# Altium integrated library Lib_componentes_Stellaris.IntLib: 27 symbols (part 2 of 2)
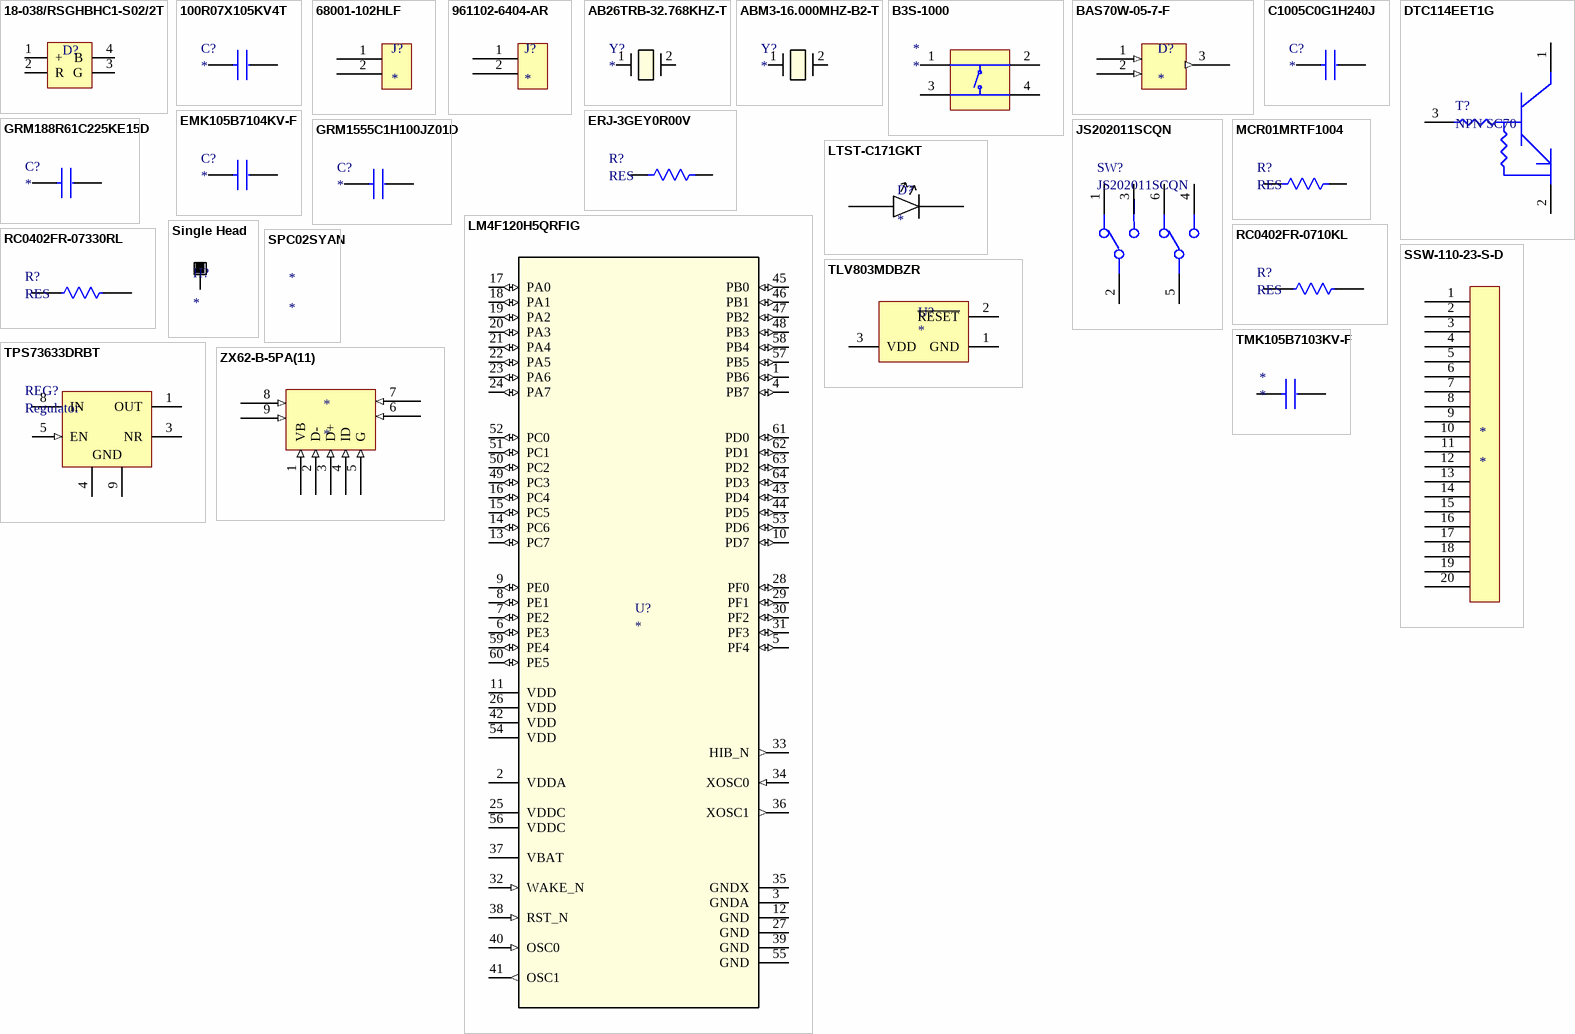
[diagram p1: symbols 18-038/RSGHBHC1-S02/2T to ZX62-B-5PA(11)]

## TLV803MDBZR
designator U?
3-pin voltage supervisor (reset IC) with active-low and open-drain reset 3-SOT-23 -40 to 125; Manufacturer: Texas Instruments; Manufacturer Part Number: TLV803MDBZR; Max Supply Voltage: 6V; Min Supply Voltage: 1.1V; Max Supply Current: 30uA; Watchdog Timer: No; Max Reset Threshold Voltage: 4.48V; Min Reset Threshold Voltage: 4.28V; Number of Voltages Monitored: 1; Reset: Active Low; Reset Timeout: 120ms; Threshold Voltage: 4.38V; Operating Supply Current: 20uA; Quiescent Current: 9uA; Supplier 1: Digi-Key; Stock 1: 0; Pricing 1: 1 = 0.79000, 10 = 0.69600, 25 = 0.65400, 100 = 0.53370, 250 = 0.49572, 500 = 0.42188, 1000 = 0.34825 (USD); RoHS: Yes; Case/Package: SOT-23; Number of Pins: 3; Min Operating Temperature: -40°C; Max Operating Temperature: 125°C; Packaging: Tape and Reel; Package Quantity: 3000; Nominal Supply Current: 30uA; Number of Elements: 1; Series: TLV803M; Supply Current: 30uA; Radiation Hardening: No; REACH SVHC: No SVHC; Lead Free: Lead Free; RoHS Compliant: Yes; ComponentLink1URL: https://datasheet.ciiva.com/1979/tlv803m-1979835.pdf?src-supplier=Digi-Key; ComponentLink1Description: https://datasheet.ciiva.com/1979/tlv803m-1979835.pdf?src-supplier=Digi-Key; ComponentLink2URL: https://datasheet.ciiva.com/1979/tlv803m-1979836.pdf?src-supplier=Digi-Key; ComponentLink2Description: https://datasheet.ciiva.com/1979/tlv803m-1979836.pdf?src-supplier=Digi-Key; ComponentLink3URL: https://datasheet.ciiva.com/14203/tlv863m-14203541.pdf?src-supplier=Avnet; ComponentLink3Description: https://datasheet.ciiva.com/14203/tlv863m-14203541.pdf?src-supplier=Avnet; Supplier Part Number 1: 296-29194-1-ND
footprint TLV803MDBZR (3-pin voltage supervisor (reset IC) with active-low and open-drain reset 3-SOT-23 -40 to 125)
pins: 1 GND (power), 2 ~{RESET} (oc), 3 VDD (power)

## TMK105B7103KV-F
designator *
0402 0.01 uF 25 V ±10% X7R Automotive Multilayer Ceramic Capacitor; Manufacturer: Taiyo Yuden; Manufacturer Part Number: TMK105B7103KV-F; Capacitance: 10nF; Voltage Rating: 25V; Supplier 1: Digi-Key; Stock 1: 711807; Pricing 1: 1 = 0.10000, 10 = 0.02200, 50 = 0.01180, 100 = 0.00960, 500 = 0.00684, 1000 = 0.00538, 2500 = 0.00489, 5000 = 0.00450 (USD); RoHS: Yes; Mount: Surface Mount; Case/Package: 0402; Case Code (Metric): 1005; Case Code (Imperial): 0402; Contact Plating: Tin; Min Operating Temperature: -55°C; Max Operating Temperature: 125°C; Tolerance: 10%; Package Quantity: 1; Packaging: Tape and Reel; Voltage Rating (DC): 25V; Dielectric: X7R; Termination: SMD/SMT; Resistor Type: Ceramic; Series: M; Construction: Flat; Voltage: 25V; Length: 1mm; Width: 0.02inch; Height: 0.5mm; Thickness: 0.022inch; Depth: 0.5mm; REACH SVHC: Unknown; Halogen Free: Halogen Free; RoHS Compliant: Yes; ComponentLink1URL: https://datasheet.ciiva.com/129/tmk105b7103kv-f-ss-129699.pdf?src-supplier=Digi-Key; ComponentLink1Description: https://datasheet.ciiva.com/129/tmk105b7103kv-f-ss-129699.pdf?src-supplier=Digi-Key; ComponentLink2URL: https://datasheet.ciiva.com/30192/438tmk105b7103kv-f-30192315.pdf?src-supplier=Onlinecomponents.com; ComponentLink2Description: https://datasheet.ciiva.com/30192/438tmk105b7103kv-f-30192315.pdf?src-supplier=Onlinecomponents.com; ComponentLink3URL: https://datasheet.ciiva.com/15922/204tmk105b7103kv-f-15922348.pdf?src-supplier=Onlinecomponents.com; ComponentLink3Description: https://datasheet.ciiva.com/15922/204tmk105b7103kv-f-15922348.pdf?src-supplier=Onlinecomponents.com; ComponentLink4URL: https://datasheet.ciiva.com/30156/190tmk105b7103kv-f-30156174.pdf?src-supplier=Onlinecomponents.com; ComponentLink4Description: https://datasheet.ciiva.com/30156/190tmk105b7103kv-f-30156174.pdf?src-supplier=Onlinecomponents.com; ComponentLink5URL: https://datasheet.ciiva.com/28645/746258-28645254.pdf?src-supplier=Element14; ComponentLink5Description: https://datasheet.ciiva.com/28645/746258-28645254.pdf?src-supplier=Element14; ComponentLink6URL: https://datasheet.ciiva.com/7975/746258-7975835.pdf?src-supplier=Element14; ComponentLink6Description: https://datasheet.ciiva.com/7975/746258-7975835.pdf?src-supplier=Element14; Supplier Part Number 1: 587-1223-1-ND
footprint CAP 0402 (Empaquetado 0402 para capacitor)
pins: 1, 2

## TPS73633DRBT
designator REG?, comment Regulator
LDO Regulator Pos 3.3V 0.4A 8-Pin VSON EP T/R; Manufacturer: Texas Instruments; Manufacturer Part Number: TPS73633DRBT; Dropout Voltage: 75mV; Number of Outputs: 1; Output Current: 400mA; Max Power Dissipation: 2.5W; Max Input Voltage: 5.5V; Min Input Voltage: 1.7V; Input Bias Current: 300uA; Polarity: Positive; Accuracy: 1%; Output Voltage Accuracy: 0.5%; Output Type: Fixed; Supplier 1: Digi-Key; Stock 1: 0; Pricing 1: 1 = 2.87000, 10 = 2.57600, 25 = 2.43520, 100 = 2.11040 (USD); RoHS: Yes; Case/Package: VSON; Number of Pins: 8; Min Operating Temperature: -40°C; Max Operating Temperature: 125°C; Package Quantity: 250; Packaging: Tape and Reel; Output Voltage: 3.3V; Max Output Current: 400mA; Number of Regulators: 1; Min Current Limit: 400mA; Power Dissipation: 2.5W; Quiescent Current: 300uA; Max Output Voltage: 3.3V; Min Output Voltage: 3.3V; Series: -; Radiation Hardening: No; Lead Free: Lead Free; RoHS Compliant: Yes; ComponentLink1URL: https://datasheet.ciiva.com/15111/getdatasheetpartid-48105-15111075.pdf?src-supplier=Verical; ComponentLink1Description: https://datasheet.ciiva.com/15111/getdatasheetpartid-48105-15111075.pdf?src-supplier=Verical; Supplier Part Number 1: 296-32558-1-ND
footprint TPS73633DRBT (LDO Regulator Pos 3.3V 0.4A 8-Pin VSON EP T/R)
pins: 1 OUT (power) "Output of the regulator. There are no output capacitor requirements for stability.", 3 NR "Fixed voltage versions only-connecting an external capacitor to this pin bypasses noise generated by the internal bandgap, reducing output noise to very low levels.", 4 GND (power) "Ground", 5 EN (in) "Driving the enable pin (EN) high turns on the regulator. Driving this pin low puts the  regulator into shutdown mode. Refer to the Shutdown section under Applications Information for more details. EN can be connected to IN (See Datasheet)", 8 IN (power) "Input supply", 9 GND (power) "Ground"

## ZX62-B-5PA(11)
designator *
Conn Micro USB 2.0 Type B RCP 5 POS 0.65mm Solder RA SMD 5 Terminal 1 Port T/R; Manufacturer: Hirose; Manufacturer Part Number: ZX62-B-5PA(11); Number of Terminals/Pins: 5; Connector Type: USB,Receptacle; Gender: Receptacle; Current Rating: 1A; Mating Cycles: 10000; Voltage Rating: 30V; Number of Ports: 1; USB Standard: USB 2.0; Supplier 1: Farnell; Stock 1: 0; Pricing 1: 10 = 0.60800, 50 = 0.48000, 100 = 0.44900, 250 = 0.43000, 500 = 0.39100, 1000 = 0.35900 (GBP); RoHS: Yes; Mount: Surface Mount,Horizontal; Contact Plating: Gold; Contact Material: Copper Alloy; Min Operating Temperature: -30°C; Max Operating Temperature: 85°C; Packaging: Tape and Reel; Number of Contacts: 5; Package Quantity: 3500; Series: ZX62; Termination: Solder; Orientation: Right Angle; Number of Positions: 5; Max Voltage Rating (AC): 30V; Voltage Rating (AC): 30V; Length: 7.9mm; Pitch: 0.65mm; Depth: 5.6mm; Radiation Hardening: No; RoHS Compliant: Yes; REACH SVHC: No SVHC; Lead Free: Lead Free; Flammability Rating: UL94 V-0; ComponentLink1URL: https://datasheet.ciiva.com/11731/0900766b80d9c4df-11731324.pdf?src-supplier=RSComponents; ComponentLink1Description: https://datasheet.ciiva.com/11731/0900766b80d9c4df-11731324.pdf?src-supplier=RSComponents; ComponentLink2URL: https://datasheet.ciiva.com/15181/getdatasheetpartid-449685-15181366.pdf?src-supplier=Verical; ComponentLink2Description: https://datasheet.ciiva.com/15181/getdatasheetpartid-449685-15181366.pdf?src-supplier=Verical; ComponentLink3URL: https://datasheet.ciiva.com/7646/81390-7646778.pdf?src-supplier=Element14; ComponentLink3Description: https://datasheet.ciiva.com/7646/81390-7646778.pdf?src-supplier=Element14; Supplier Part Number 1: 1645325
pins: 1 VB (in), 2 D- (in), 3 D+ (in), 4 ID (in), 5 G (in), 6 (in), 7 (in), 8 (in), 9 (in)